# EAGLE library part TEXAS_INSTRUMENTS-VTT_DRIVER-TPS51206DSQR (library Module_Regulators)
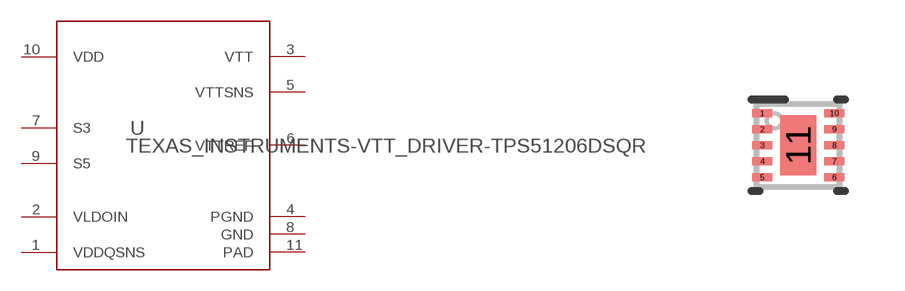
[diagram p9: symbol with the pads of TEXAS_INSTRUMENTS-VTT_DRIVER-TPS51206DSQR; footprint TEXAS_INSTRUMENTS-VTT_DRIVER-TPS51206DSQR]

Designator prefix U

## TEXAS_INSTRUMENTS-VTT_DRIVER-TPS51206DSQR (MANUFACTURER: Texas Instruments; PARTNUMBER: TPS51206DSQR; REFDES: RefDes; TYPE: TYPE; VALUE: Value)  [TEXAS_INSTRUMENTS-VTT_DRIVER-TPS51206DSQR]
1  VDDQSNS  in
2  VLDOIN  pwr
3  VTT  pwr
4  PGND  pwr
5  VTTSNS  in
6  VTTREF  out
7  S3  in
8  GND  pwr
9  S5  in
10  VDD  pwr
11  PAD  pwr

## Footprint TEXAS_INSTRUMENTS-VTT_DRIVER-TPS51206DSQR (pad centres in mm)
smd 0.5 x 0.2: 1 -0.9,0.8; 2 -0.9,0.4; 3 -0.9,0; 4 -0.9,-0.4; 5 -0.9,-0.8; 6 0.9,-0.8; 7 0.9,-0.4; 8 0.9,0; 9 0.9,0.4; 10 0.9,0.8
smd 0.9 x 1.5: 11 0,0